# Altium schematic symbol library Temperature Sensor.SchLib: 361 symbols (part 9 of 9)
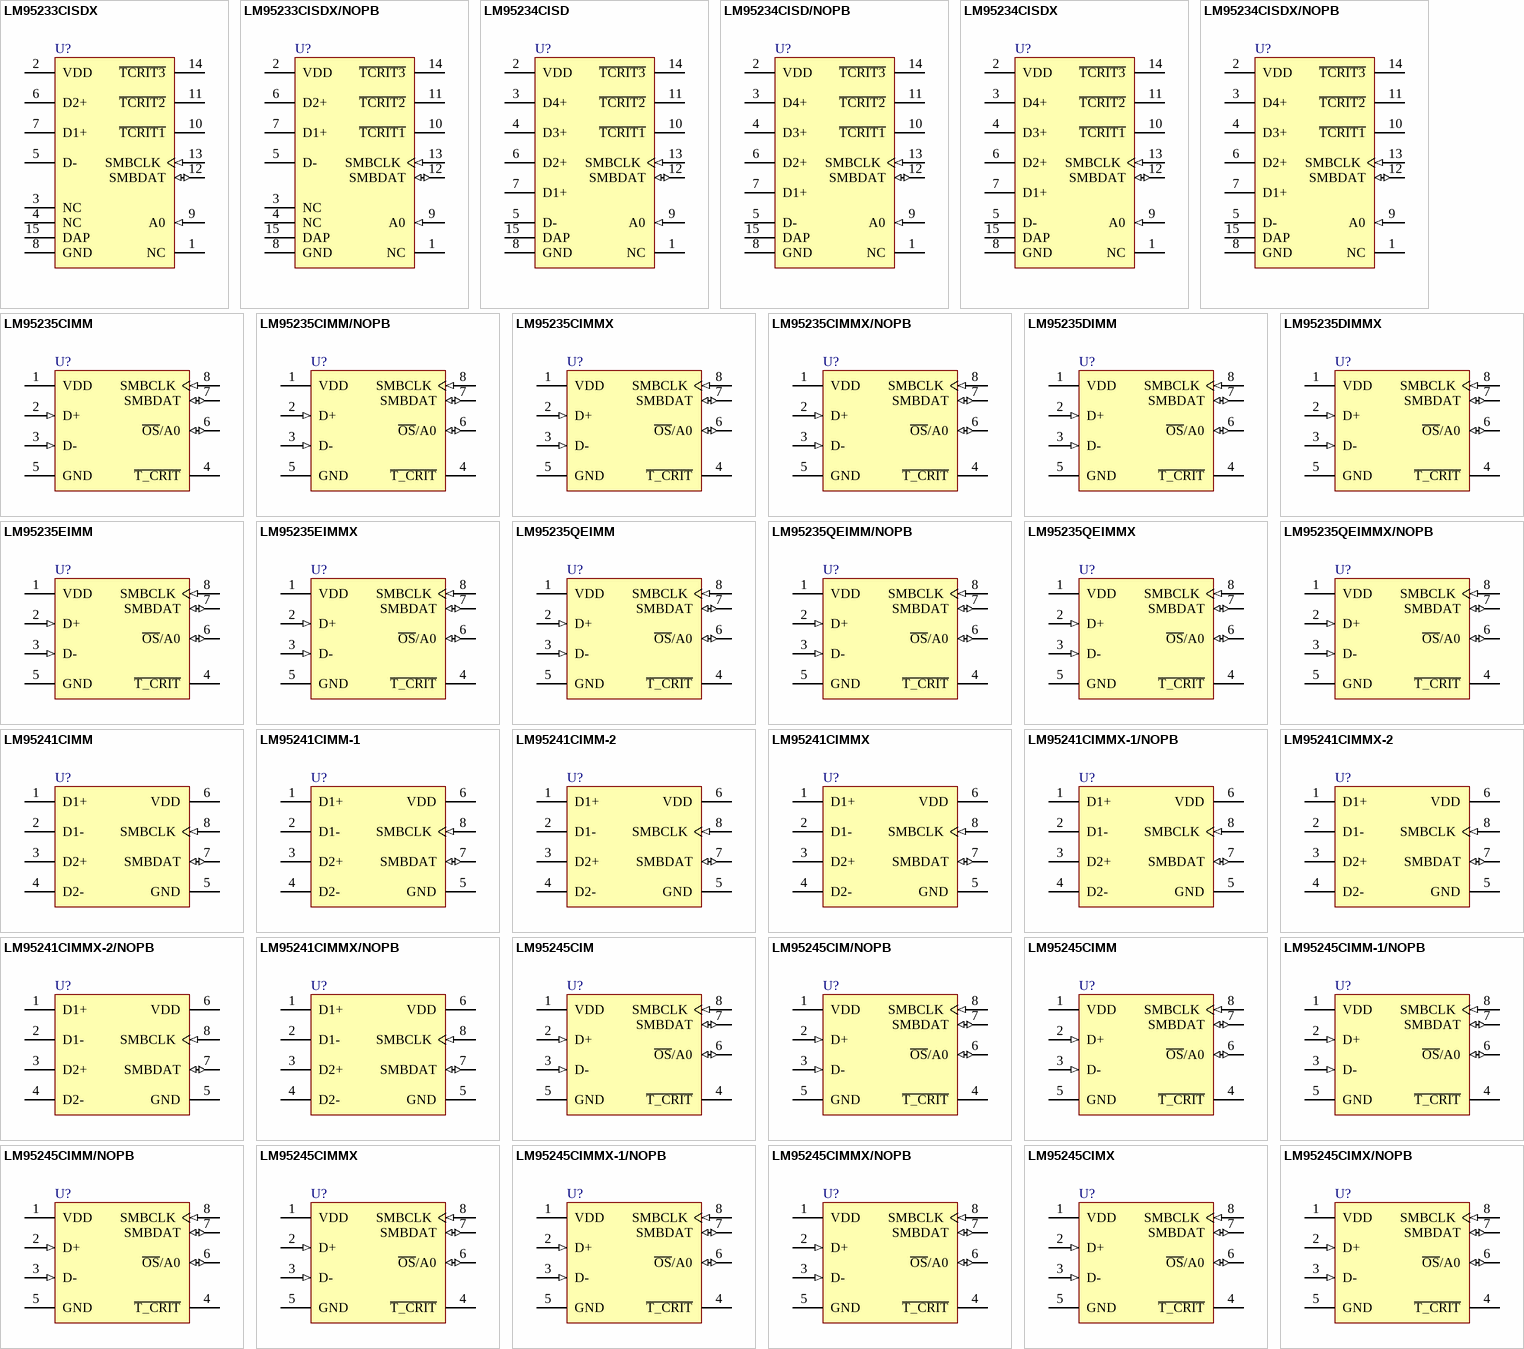
[diagram p17: symbols LM95233CISDX to LM95245CIMX/NOPB]

## LM95241CIMM-1
designator U?
Dual Remote Diode Temperature Sensor with SMBus Interface and TruTherm Technology (65nm/90nm), 8-pin Mini SOIC; PartNumber: LM95241CIMM-1; Manufacturer: National Semiconductor; PackageTopMarking: ZXTT*T29C; PowerWise: Y; CompType: Temp Sensor IC; DatasheetVersion: Sep-2006; PackageVersion: revF, Apr-2008; PackageReference: MUA08A; PackageDescription: MINI SOIC, .118 x .118 x .034in, 8 Lead, .0256in Pitch; RoHS: N; PinCount: 8; High-Reliability: Y; Code_JEDEC: MO-187-AA; ComponentLink1Description: Manufacturer URL; ComponentLink1URL: http://www.national.com/; ComponentLink2Description: LM95241 Datasheet; ComponentLink2URL: http://www.national.com/ds/LM/LM95241.pdf; ComponentLink3Description: LM95241 Web Page; ComponentLink3URL: http://www.national.com/pf/LM/LM95241.html; ComponentLink4Description: MUA08A Package Page; ComponentLink4URL: http://www.national.com/packaging/folders/mua08a.html
footprint MUA08A_N (TSOP, 8-Leads, Body 3x3mm, Pitch 0.65mm, IPC Medium Density)
footprint MUA08A_L (TSOP, 8-Leads, Body 3x3mm, Pitch 0.65mm, IPC High Density)
footprint MUA08A_M (TSOP, 8-Leads, Body 3x3mm, Pitch 0.65mm, IPC Low Density)
pins: 1 D1+, 2 D1-, 3 D2+, 4 D2-, 5 GND (power), 6 VDD (power), 7 SMBDAT (io), 8 SMBCLK (in)

## LM95241CIMM-2
designator U?
Dual Remote Diode Temperature Sensor with SMBus Interface and TruTherm Technology (65nm/90nm), 8-pin Mini SOIC; PartNumber: LM95241CIMM-2; Manufacturer: National Semiconductor; PackageTopMarking: ZXTT*T30C; PowerWise: Y; CompType: Temp Sensor IC; DatasheetVersion: Sep-2006; PackageVersion: revF, Apr-2008; PackageReference: MUA08A; PackageDescription: MINI SOIC, .118 x .118 x .034in, 8 Lead, .0256in Pitch; RoHS: N; PinCount: 8; High-Reliability: Y; Code_JEDEC: MO-187-AA; ComponentLink1Description: Manufacturer URL; ComponentLink1URL: http://www.national.com/; ComponentLink2Description: LM95241 Datasheet; ComponentLink2URL: http://www.national.com/ds/LM/LM95241.pdf; ComponentLink3Description: LM95241 Web Page; ComponentLink3URL: http://www.national.com/pf/LM/LM95241.html; ComponentLink4Description: MUA08A Package Page; ComponentLink4URL: http://www.national.com/packaging/folders/mua08a.html
footprint MUA08A_N (TSOP, 8-Leads, Body 3x3mm, Pitch 0.65mm, IPC Medium Density)
footprint MUA08A_L (TSOP, 8-Leads, Body 3x3mm, Pitch 0.65mm, IPC High Density)
footprint MUA08A_M (TSOP, 8-Leads, Body 3x3mm, Pitch 0.65mm, IPC Low Density)
pins: 1 D1+, 2 D1-, 3 D2+, 4 D2-, 5 GND (power), 6 VDD (power), 7 SMBDAT (io), 8 SMBCLK (in)

## LM95241CIMMX
designator U?
Dual Remote Diode Temperature Sensor with SMBus Interface and TruTherm Technology (65nm/90nm), 8-pin Mini SOIC; PartNumber: LM95241CIMMX; Manufacturer: National Semiconductor; PackageTopMarking: ZXTT*T28C; PowerWise: Y; CompType: Temp Sensor IC; DatasheetVersion: Sep-2006; PackageVersion: revF, Apr-2008; PackageReference: MUA08A; PackageDescription: MINI SOIC, .118 x .118 x .034in, 8 Lead, .0256in Pitch; RoHS: N; PinCount: 8; High-Reliability: Y; Code_JEDEC: MO-187-AA; ComponentLink1Description: Manufacturer URL; ComponentLink1URL: http://www.national.com/; ComponentLink2Description: LM95241 Datasheet; ComponentLink2URL: http://www.national.com/ds/LM/LM95241.pdf; ComponentLink3Description: LM95241 Web Page; ComponentLink3URL: http://www.national.com/pf/LM/LM95241.html; ComponentLink4Description: MUA08A Package Page; ComponentLink4URL: http://www.national.com/packaging/folders/mua08a.html
footprint MUA08A_N (TSOP, 8-Leads, Body 3x3mm, Pitch 0.65mm, IPC Medium Density)
footprint MUA08A_L (TSOP, 8-Leads, Body 3x3mm, Pitch 0.65mm, IPC High Density)
footprint MUA08A_M (TSOP, 8-Leads, Body 3x3mm, Pitch 0.65mm, IPC Low Density)
pins: 1 D1+, 2 D1-, 3 D2+, 4 D2-, 5 GND (power), 6 VDD (power), 7 SMBDAT (io), 8 SMBCLK (in)

## LM95241CIMMX-1/NOPB
designator U?
Dual Remote Diode Temperature Sensor with SMBus Interface and TruTherm Technology (65nm/90nm), 8-pin Mini SOIC, Pb-Free; PartNumber: LM95241CIMMX-1/NOPB; Manufacturer: National Semiconductor; PackageTopMarking: ZXTT*T29C; PowerWise: Y; CompType: Temp Sensor IC; DatasheetVersion: Sep-2006; PackageVersion: revF, Apr-2008; PackageReference: MUA08A; PackageDescription: MINI SOIC, .118 x .118 x .034in, 8 Lead, .0256in Pitch; RoHS: Y; PinCount: 8; High-Reliability: Y; Code_JEDEC: MO-187-AA; ComponentLink1Description: Manufacturer URL; ComponentLink1URL: http://www.national.com/; ComponentLink2Description: LM95241 Datasheet; ComponentLink2URL: http://www.national.com/ds/LM/LM95241.pdf; ComponentLink3Description: LM95241 Web Page; ComponentLink3URL: http://www.national.com/pf/LM/LM95241.html; ComponentLink4Description: MUA08A Package Page; ComponentLink4URL: http://www.national.com/packaging/folders/mua08a.html
footprint MUA08A_N (TSOP, 8-Leads, Body 3x3mm, Pitch 0.65mm, IPC Medium Density)
footprint MUA08A_L (TSOP, 8-Leads, Body 3x3mm, Pitch 0.65mm, IPC High Density)
footprint MUA08A_M (TSOP, 8-Leads, Body 3x3mm, Pitch 0.65mm, IPC Low Density)
pins: 1 D1+, 2 D1-, 3 D2+, 4 D2-, 5 GND (power), 6 VDD (power), 7 SMBDAT (io), 8 SMBCLK (in)

## LM95241CIMMX-2
designator U?
Dual Remote Diode Temperature Sensor with SMBus Interface and TruTherm Technology (65nm/90nm), 8-pin Mini SOIC; PartNumber: LM95241CIMMX-2; Manufacturer: National Semiconductor; PackageTopMarking: ZXTT*T30C; PowerWise: Y; CompType: Temp Sensor IC; DatasheetVersion: Sep-2006; PackageVersion: revF, Apr-2008; PackageReference: MUA08A; PackageDescription: MINI SOIC, .118 x .118 x .034in, 8 Lead, .0256in Pitch; RoHS: N; PinCount: 8; High-Reliability: Y; Code_JEDEC: MO-187-AA; ComponentLink1Description: Manufacturer URL; ComponentLink1URL: http://www.national.com/; ComponentLink2Description: LM95241 Datasheet; ComponentLink2URL: http://www.national.com/ds/LM/LM95241.pdf; ComponentLink3Description: LM95241 Web Page; ComponentLink3URL: http://www.national.com/pf/LM/LM95241.html; ComponentLink4Description: MUA08A Package Page; ComponentLink4URL: http://www.national.com/packaging/folders/mua08a.html
footprint MUA08A_N (TSOP, 8-Leads, Body 3x3mm, Pitch 0.65mm, IPC Medium Density)
footprint MUA08A_L (TSOP, 8-Leads, Body 3x3mm, Pitch 0.65mm, IPC High Density)
footprint MUA08A_M (TSOP, 8-Leads, Body 3x3mm, Pitch 0.65mm, IPC Low Density)
pins: 1 D1+, 2 D1-, 3 D2+, 4 D2-, 5 GND (power), 6 VDD (power), 7 SMBDAT (io), 8 SMBCLK (in)

## LM95241CIMMX-2/NOPB
designator U?
Dual Remote Diode Temperature Sensor with SMBus Interface and TruTherm Technology (65nm/90nm), 8-pin Mini SOIC, Pb-Free; PartNumber: LM95241CIMMX-2/NOPB; Manufacturer: National Semiconductor; PackageTopMarking: ZXTT*T30C; PowerWise: Y; CompType: Temp Sensor IC; DatasheetVersion: Sep-2006; PackageVersion: revF, Apr-2008; PackageReference: MUA08A; PackageDescription: MINI SOIC, .118 x .118 x .034in, 8 Lead, .0256in Pitch; RoHS: Y; PinCount: 8; High-Reliability: Y; Code_JEDEC: MO-187-AA; ComponentLink1Description: Manufacturer URL; ComponentLink1URL: http://www.national.com/; ComponentLink2Description: LM95241 Datasheet; ComponentLink2URL: http://www.national.com/ds/LM/LM95241.pdf; ComponentLink3Description: LM95241 Web Page; ComponentLink3URL: http://www.national.com/pf/LM/LM95241.html; ComponentLink4Description: MUA08A Package Page; ComponentLink4URL: http://www.national.com/packaging/folders/mua08a.html
footprint MUA08A_N (TSOP, 8-Leads, Body 3x3mm, Pitch 0.65mm, IPC Medium Density)
footprint MUA08A_L (TSOP, 8-Leads, Body 3x3mm, Pitch 0.65mm, IPC High Density)
footprint MUA08A_M (TSOP, 8-Leads, Body 3x3mm, Pitch 0.65mm, IPC Low Density)
pins: 1 D1+, 2 D1-, 3 D2+, 4 D2-, 5 GND (power), 6 VDD (power), 7 SMBDAT (io), 8 SMBCLK (in)

## LM95241CIMMX/NOPB
designator U?
Dual Remote Diode Temperature Sensor with SMBus Interface and TruTherm Technology (65nm/90nm), 8-pin Mini SOIC, Pb-Free; PartNumber: LM95241CIMMX/NOPB; Manufacturer: National Semiconductor; PackageTopMarking: ZXTT*T28C; PowerWise: Y; CompType: Temp Sensor IC; DatasheetVersion: Sep-2006; PackageVersion: revF, Apr-2008; PackageReference: MUA08A; PackageDescription: MINI SOIC, .118 x .118 x .034in, 8 Lead, .0256in Pitch; RoHS: Y; PinCount: 8; High-Reliability: Y; Code_JEDEC: MO-187-AA; ComponentLink1Description: Manufacturer URL; ComponentLink1URL: http://www.national.com/; ComponentLink2Description: LM95241 Datasheet; ComponentLink2URL: http://www.national.com/ds/LM/LM95241.pdf; ComponentLink3Description: LM95241 Web Page; ComponentLink3URL: http://www.national.com/pf/LM/LM95241.html; ComponentLink4Description: MUA08A Package Page; ComponentLink4URL: http://www.national.com/packaging/folders/mua08a.html
footprint MUA08A_N (TSOP, 8-Leads, Body 3x3mm, Pitch 0.65mm, IPC Medium Density)
footprint MUA08A_L (TSOP, 8-Leads, Body 3x3mm, Pitch 0.65mm, IPC High Density)
footprint MUA08A_M (TSOP, 8-Leads, Body 3x3mm, Pitch 0.65mm, IPC Low Density)
pins: 1 D1+, 2 D1-, 3 D2+, 4 D2-, 5 GND (power), 6 VDD (power), 7 SMBDAT (io), 8 SMBCLK (in)

## LM95245CIM
designator U?
Precision Remote Diode Digital Temperature Sensor with TruTherm BJT Beta Compensation Technology for 45nm Process, 8-pin Narrow SOIC; PartNumber: LM95245CIM; Manufacturer: National Semiconductor; PackageTopMarking: NSZXTT*95245*CIM; PowerWise: N; CompType: Temp Sensor IC; High-Reliability: Y; DatasheetVersion: Mar-2008; PackageVersion: revM, May-2009; PackageReference: M08A; PackageDescription: SOIC Narrow, 4.9 x 3.9 x 1.45mm, 8 Lead, 1.27mm Pitch; RoHS: N; PinCount: 8; Code_JEDEC: MS-012-AA; Code_IPC: SOIC127P600-8; ComponentLink1Description: Manufacturer URL; ComponentLink1URL: http://www.national.com/; ComponentLink2Description: LM95245 Datasheet; ComponentLink2URL: http://www.national.com/ds/LM/LM95245.pdf; ComponentLink3Description: LM95245 Web Page; ComponentLink3URL: http://www.national.com/pf/LM/LM95245.html; ComponentLink4Description: M08A Package Page; ComponentLink4URL: http://www.national.com/packaging/folders/m08a.html
footprint M08A_N (SOIC, 8-Leads, Body 4.9x3.9mm, Pitch 1.27mm, IPC Medium Density)
footprint M08A_L (SOIC, 8-Leads, Body 4.9x3.9mm, Pitch 1.27mm, IPC High Density)
footprint M08A_M (SOIC, 8-Leads, Body 4.9x3.9mm, Pitch 1.27mm, IPC Low Density)
pins: 1 VDD (power), 2 D+ (in), 3 D- (in), 4 ~{T_CRIT} (oc), 5 GND (power), 6 ~{OS}/A0 (io), 7 SMBDAT (io), 8 SMBCLK (in)

## LM95245CIM/NOPB
designator U?
Precision Remote Diode Digital Temperature Sensor with TruTherm BJT Beta Compensation Technology for 45nm Process, 8-pin Narrow SOIC, Pb-Free; PartNumber: LM95245CIM/NOPB; Manufacturer: National Semiconductor; PackageTopMarking: NSZXTT*95245*CIM; PowerWise: N; CompType: Temp Sensor IC; High-Reliability: Y; DatasheetVersion: Mar-2008; PackageVersion: revM, May-2009; PackageReference: M08A; PackageDescription: SOIC Narrow, 4.9 x 3.9 x 1.45mm, 8 Lead, 1.27mm Pitch; RoHS: Y; PinCount: 8; Code_JEDEC: MS-012-AA; Code_IPC: SOIC127P600-8; ComponentLink1Description: Manufacturer URL; ComponentLink1URL: http://www.national.com/; ComponentLink2Description: LM95245 Datasheet; ComponentLink2URL: http://www.national.com/ds/LM/LM95245.pdf; ComponentLink3Description: LM95245 Web Page; ComponentLink3URL: http://www.national.com/pf/LM/LM95245.html; ComponentLink4Description: M08A Package Page; ComponentLink4URL: http://www.national.com/packaging/folders/m08a.html
footprint M08A_N (SOIC, 8-Leads, Body 4.9x3.9mm, Pitch 1.27mm, IPC Medium Density)
footprint M08A_L (SOIC, 8-Leads, Body 4.9x3.9mm, Pitch 1.27mm, IPC High Density)
footprint M08A_M (SOIC, 8-Leads, Body 4.9x3.9mm, Pitch 1.27mm, IPC Low Density)
pins: 1 VDD (power), 2 D+ (in), 3 D- (in), 4 ~{T_CRIT} (oc), 5 GND (power), 6 ~{OS}/A0 (io), 7 SMBDAT (io), 8 SMBCLK (in)

## LM95245CIMM
designator U?
Precision Remote Diode Digital Temperature Sensor with TruTherm BJT Beta Compensation Technology for 45nm Process, 8-pin Mini SOIC; PartNumber: LM95245CIMM; Manufacturer: National Semiconductor; PackageTopMarking: ZXTT*T45C; PowerWise: Y; CompType: Temp Sensor IC; DatasheetVersion: Mar-2008; PackageVersion: revF, Apr-2008; PackageReference: MUA08A; PackageDescription: MINI SOIC, .118 x .118 x .034in, 8 Lead, .0256in Pitch; RoHS: N; PinCount: 8; High-Reliability: Y; Code_JEDEC: MO-187-AA; ComponentLink1Description: Manufacturer URL; ComponentLink1URL: http://www.national.com/; ComponentLink2Description: LM95245 Datasheet; ComponentLink2URL: http://www.national.com/ds/LM/LM95245.pdf; ComponentLink3Description: LM95245 Web Page; ComponentLink3URL: http://www.national.com/pf/LM/LM95245.html; ComponentLink4Description: MUA08A Package Page; ComponentLink4URL: http://www.national.com/packaging/folders/mua08a.html
footprint MUA08A_N (TSOP, 8-Leads, Body 3x3mm, Pitch 0.65mm, IPC Medium Density)
footprint MUA08A_L (TSOP, 8-Leads, Body 3x3mm, Pitch 0.65mm, IPC High Density)
footprint MUA08A_M (TSOP, 8-Leads, Body 3x3mm, Pitch 0.65mm, IPC Low Density)
pins: 1 VDD (power), 2 D+ (in), 3 D- (in), 4 ~{T_CRIT} (oc), 5 GND (power), 6 ~{OS}/A0 (io), 7 SMBDAT (io), 8 SMBCLK (in)

## LM95245CIMM-1/NOPB
designator U?
Precision Remote Diode Digital Temperature Sensor with TruTherm BJT Beta Compensation Technology for 45nm Process, 8 pin MINI SOIC; PartNumber: LM95245CIMM-1/NOPB; Manufacturer: National Semiconductor; PackageTopMarking: ZXTT*T46C; PowerWise: Y; CompType: Temp Sensor IC; DatasheetVersion: Mar-2008; PackageVersion: revF, Apr-2008; PackageReference: MUA08A; PackageDescription: MINI SOIC, .118 x .118 x .034in, 8 Lead, .0256in Pitch; RoHS: Y; PinCount: 8; High-Reliability: Y; Code_JEDEC: MO-187-AA; ComponentLink1Description: Manufacturer URL; ComponentLink1URL: http://www.national.com/; ComponentLink2Description: LM95245 Datasheet; ComponentLink2URL: http://www.national.com/ds/LM/LM95245.pdf; ComponentLink3Description: LM95245 Web Page; ComponentLink3URL: http://www.national.com/pf/LM/LM95245.html; ComponentLink4Description: MUA08A Package Page; ComponentLink4URL: http://www.national.com/packaging/folders/mua08a.html
footprint MUA08A_N (TSOP, 8-Leads, Body 3x3mm, Pitch 0.65mm, IPC Medium Density)
footprint MUA08A_L (TSOP, 8-Leads, Body 3x3mm, Pitch 0.65mm, IPC High Density)
footprint MUA08A_M (TSOP, 8-Leads, Body 3x3mm, Pitch 0.65mm, IPC Low Density)
pins: 1 VDD (power), 2 D+ (in), 3 D- (in), 4 ~{T_CRIT} (oc), 5 GND (power), 6 ~{OS}/A0 (io), 7 SMBDAT (io), 8 SMBCLK (in)

## LM95245CIMM/NOPB
designator U?
Precision Remote Diode Digital Temperature Sensor with TruTherm BJT Beta Compensation Technology for 45nm Process, 8-pin Mini SOIC, Pb-Free; PartNumber: LM95245CIMM/NOPB; Manufacturer: National Semiconductor; PackageTopMarking: ZXTT*T45C; PowerWise: Y; CompType: Temp Sensor IC; DatasheetVersion: Mar-2008; PackageVersion: revF, Apr-2008; PackageReference: MUA08A; PackageDescription: MINI SOIC, .118 x .118 x .034in, 8 Lead, .0256in Pitch; RoHS: Y; PinCount: 8; High-Reliability: Y; Code_JEDEC: MO-187-AA; ComponentLink1Description: Manufacturer URL; ComponentLink1URL: http://www.national.com/; ComponentLink2Description: LM95245 Datasheet; ComponentLink2URL: http://www.national.com/ds/LM/LM95245.pdf; ComponentLink3Description: LM95245 Web Page; ComponentLink3URL: http://www.national.com/pf/LM/LM95245.html; ComponentLink4Description: MUA08A Package Page; ComponentLink4URL: http://www.national.com/packaging/folders/mua08a.html
footprint MUA08A_N (TSOP, 8-Leads, Body 3x3mm, Pitch 0.65mm, IPC Medium Density)
footprint MUA08A_L (TSOP, 8-Leads, Body 3x3mm, Pitch 0.65mm, IPC High Density)
footprint MUA08A_M (TSOP, 8-Leads, Body 3x3mm, Pitch 0.65mm, IPC Low Density)
pins: 1 VDD (power), 2 D+ (in), 3 D- (in), 4 ~{T_CRIT} (oc), 5 GND (power), 6 ~{OS}/A0 (io), 7 SMBDAT (io), 8 SMBCLK (in)

## LM95245CIMMX
designator U?
Precision Remote Diode Digital Temperature Sensor with TruTherm BJT Beta Compensation Technology for 45nm Process, 8-pin Mini SOIC; PartNumber: LM95245CIMMX; Manufacturer: National Semiconductor; PackageTopMarking: ZXTT*T45C; PowerWise: Y; CompType: Temp Sensor IC; DatasheetVersion: Mar-2008; PackageVersion: revF, Apr-2008; PackageReference: MUA08A; PackageDescription: MINI SOIC, .118 x .118 x .034in, 8 Lead, .0256in Pitch; RoHS: N; PinCount: 8; High-Reliability: Y; Code_JEDEC: MO-187-AA; ComponentLink1Description: Manufacturer URL; ComponentLink1URL: http://www.national.com/; ComponentLink2Description: LM95245 Datasheet; ComponentLink2URL: http://www.national.com/ds/LM/LM95245.pdf; ComponentLink3Description: LM95245 Web Page; ComponentLink3URL: http://www.national.com/pf/LM/LM95245.html; ComponentLink4Description: MUA08A Package Page; ComponentLink4URL: http://www.national.com/packaging/folders/mua08a.html
footprint MUA08A_N (TSOP, 8-Leads, Body 3x3mm, Pitch 0.65mm, IPC Medium Density)
footprint MUA08A_L (TSOP, 8-Leads, Body 3x3mm, Pitch 0.65mm, IPC High Density)
footprint MUA08A_M (TSOP, 8-Leads, Body 3x3mm, Pitch 0.65mm, IPC Low Density)
pins: 1 VDD (power), 2 D+ (in), 3 D- (in), 4 ~{T_CRIT} (oc), 5 GND (power), 6 ~{OS}/A0 (io), 7 SMBDAT (io), 8 SMBCLK (in)

## LM95245CIMMX-1/NOPB
designator U?
Precision Remote Diode Digital Temperature Sensor with TruTherm BJT Beta Compensation Technology for 45nm Process, 8 pin MINI SOIC; PartNumber: LM95245CIMMX-1/NOPB; Manufacturer: National Semiconductor; PackageTopMarking: ZXTT*T46C; PowerWise: Y; CompType: Temp Sensor IC; DatasheetVersion: Mar-2008; PackageVersion: revF, Apr-2008; PackageReference: MUA08A; PackageDescription: MINI SOIC, .118 x .118 x .034in, 8 Lead, .0256in Pitch; RoHS: Y; PinCount: 8; High-Reliability: Y; Code_JEDEC: MO-187-AA; ComponentLink1Description: Manufacturer URL; ComponentLink1URL: http://www.national.com/; ComponentLink2Description: LM95245 Datasheet; ComponentLink2URL: http://www.national.com/ds/LM/LM95245.pdf; ComponentLink3Description: LM95245 Web Page; ComponentLink3URL: http://www.national.com/pf/LM/LM95245.html; ComponentLink4Description: MUA08A Package Page; ComponentLink4URL: http://www.national.com/packaging/folders/mua08a.html
footprint MUA08A_N (TSOP, 8-Leads, Body 3x3mm, Pitch 0.65mm, IPC Medium Density)
footprint MUA08A_L (TSOP, 8-Leads, Body 3x3mm, Pitch 0.65mm, IPC High Density)
footprint MUA08A_M (TSOP, 8-Leads, Body 3x3mm, Pitch 0.65mm, IPC Low Density)
pins: 1 VDD (power), 2 D+ (in), 3 D- (in), 4 ~{T_CRIT} (oc), 5 GND (power), 6 ~{OS}/A0 (io), 7 SMBDAT (io), 8 SMBCLK (in)

## LM95245CIMMX/NOPB
designator U?
Precision Remote Diode Digital Temperature Sensor with TruTherm BJT Beta Compensation Technology for 45nm Process, 8-pin Mini SOIC, Pb-Free; PartNumber: LM95245CIMMX/NOPB; Manufacturer: National Semiconductor; PackageTopMarking: ZXTT*T45C; PowerWise: Y; CompType: Temp Sensor IC; DatasheetVersion: Mar-2008; PackageVersion: revF, Apr-2008; PackageReference: MUA08A; PackageDescription: MINI SOIC, .118 x .118 x .034in, 8 Lead, .0256in Pitch; RoHS: Y; PinCount: 8; High-Reliability: Y; Code_JEDEC: MO-187-AA; ComponentLink1Description: Manufacturer URL; ComponentLink1URL: http://www.national.com/; ComponentLink2Description: LM95245 Datasheet; ComponentLink2URL: http://www.national.com/ds/LM/LM95245.pdf; ComponentLink3Description: LM95245 Web Page; ComponentLink3URL: http://www.national.com/pf/LM/LM95245.html; ComponentLink4Description: MUA08A Package Page; ComponentLink4URL: http://www.national.com/packaging/folders/mua08a.html
footprint MUA08A_N (TSOP, 8-Leads, Body 3x3mm, Pitch 0.65mm, IPC Medium Density)
footprint MUA08A_L (TSOP, 8-Leads, Body 3x3mm, Pitch 0.65mm, IPC High Density)
footprint MUA08A_M (TSOP, 8-Leads, Body 3x3mm, Pitch 0.65mm, IPC Low Density)
pins: 1 VDD (power), 2 D+ (in), 3 D- (in), 4 ~{T_CRIT} (oc), 5 GND (power), 6 ~{OS}/A0 (io), 7 SMBDAT (io), 8 SMBCLK (in)

## LM95245CIMX
designator U?
Precision Remote Diode Digital Temperature Sensor with TruTherm BJT Beta Compensation Technology for 45nm Process, 8-pin Narrow SOIC; PartNumber: LM95245CIMX; Manufacturer: National Semiconductor; PackageTopMarking: NSZXTT*95245*CIM; PowerWise: N; CompType: Temp Sensor IC; High-Reliability: Y; DatasheetVersion: Mar-2008; PackageVersion: revM, May-2009; PackageReference: M08A; PackageDescription: SOIC Narrow, 4.9 x 3.9 x 1.45mm, 8 Lead, 1.27mm Pitch; RoHS: N; PinCount: 8; Code_JEDEC: MS-012-AA; Code_IPC: SOIC127P600-8; ComponentLink1Description: Manufacturer URL; ComponentLink1URL: http://www.national.com/; ComponentLink2Description: LM95245 Datasheet; ComponentLink2URL: http://www.national.com/ds/LM/LM95245.pdf; ComponentLink3Description: LM95245 Web Page; ComponentLink3URL: http://www.national.com/pf/LM/LM95245.html; ComponentLink4Description: M08A Package Page; ComponentLink4URL: http://www.national.com/packaging/folders/m08a.html
footprint M08A_N (SOIC, 8-Leads, Body 4.9x3.9mm, Pitch 1.27mm, IPC Medium Density)
footprint M08A_L (SOIC, 8-Leads, Body 4.9x3.9mm, Pitch 1.27mm, IPC High Density)
footprint M08A_M (SOIC, 8-Leads, Body 4.9x3.9mm, Pitch 1.27mm, IPC Low Density)
pins: 1 VDD (power), 2 D+ (in), 3 D- (in), 4 ~{T_CRIT} (oc), 5 GND (power), 6 ~{OS}/A0 (io), 7 SMBDAT (io), 8 SMBCLK (in)

## LM95245CIMX/NOPB
designator U?
Precision Remote Diode Digital Temperature Sensor with TruTherm BJT Beta Compensation Technology for 45nm Process, 8-pin Narrow SOIC, Pb-Free; PartNumber: LM95245CIMX/NOPB; Manufacturer: National Semiconductor; PackageTopMarking: NSZXTT*95245*CIM; PowerWise: N; CompType: Temp Sensor IC; High-Reliability: Y; DatasheetVersion: Mar-2008; PackageVersion: revM, May-2009; PackageReference: M08A; PackageDescription: SOIC Narrow, 4.9 x 3.9 x 1.45mm, 8 Lead, 1.27mm Pitch; RoHS: Y; PinCount: 8; Code_JEDEC: MS-012-AA; Code_IPC: SOIC127P600-8; ComponentLink1Description: Manufacturer URL; ComponentLink1URL: http://www.national.com/; ComponentLink2Description: LM95245 Datasheet; ComponentLink2URL: http://www.national.com/ds/LM/LM95245.pdf; ComponentLink3Description: LM95245 Web Page; ComponentLink3URL: http://www.national.com/pf/LM/LM95245.html; ComponentLink4Description: M08A Package Page; ComponentLink4URL: http://www.national.com/packaging/folders/m08a.html
footprint M08A_N (SOIC, 8-Leads, Body 4.9x3.9mm, Pitch 1.27mm, IPC Medium Density)
footprint M08A_L (SOIC, 8-Leads, Body 4.9x3.9mm, Pitch 1.27mm, IPC High Density)
footprint M08A_M (SOIC, 8-Leads, Body 4.9x3.9mm, Pitch 1.27mm, IPC Low Density)
pins: 1 VDD (power), 2 D+ (in), 3 D- (in), 4 ~{T_CRIT} (oc), 5 GND (power), 6 ~{OS}/A0 (io), 7 SMBDAT (io), 8 SMBCLK (in)

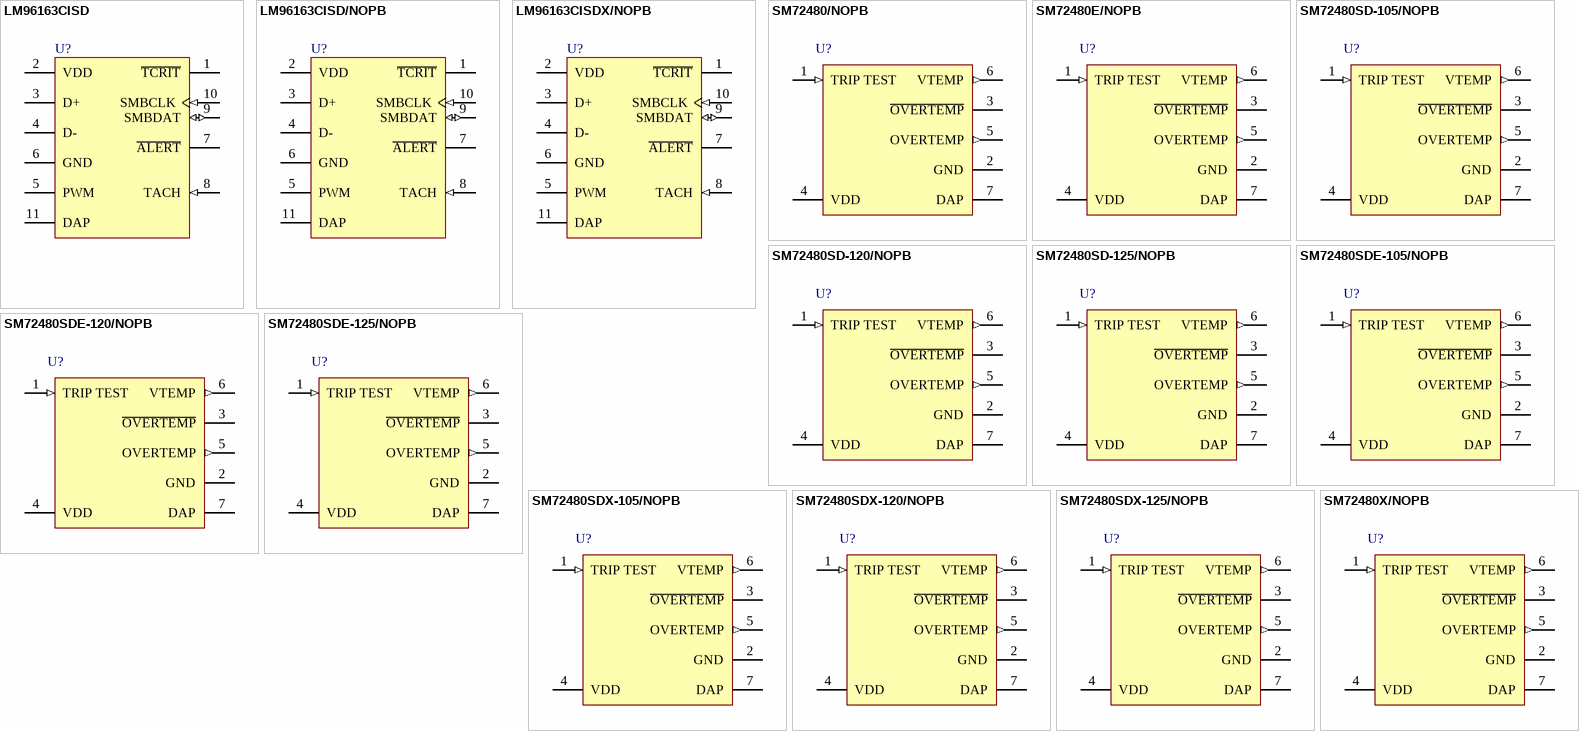
[diagram p9: symbols LM96163CISD to SM72480X/NOPB]

## LM96163CISD
designator U?
Remote Diode Digital Temperature Sensor with Integrated Fan Control and TruTherm BJT Transistor Beta Compensation Technology, 11-pin LLP; PartNumber: LM96163CISD; Manufacturer: National Semiconductor; PackageTopMarking: ZXYTT*T63C; PowerWise: Y; CompType: Temp Sensor IC; DatasheetVersion: Jun-2008; PackageVersion: revA, Oct-2003; PackageReference: SDA10A; PackageDescription: LLP, Plastic, Dual, 3 x 3 x 0.8mm Body, 10 Lead, 0.5mm Pitch, No Pullback; RoHS: Y; PinCount: 10; High-Reliability: Y; ComponentLink1Description: Manufacturer URL; ComponentLink1URL: http://www.national.com/; ComponentLink2Description: LM96163 Datasheet; ComponentLink2URL: http://www.national.com/ds/LM/LM96163.pdf; ComponentLink3Description: LM96163 Web Page; ComponentLink3URL: http://www.national.com/pf/LM/LM96163.html; ComponentLink4Description: SDA10A Package Page; ComponentLink4URL: http://www.national.com/packaging/folders/sda10a.html
footprint SDA10A (SON, 10-Leads, Body 3x3 mm, Pitch 0.5mm, NSC Recommended)
pins: 1 ~{TCRIT} (oc), 2 VDD (power), 3 D+, 4 D-, 5 PWM (oc), 6 GND (power), 7 ~{ALERT} (oc), 8 TACH (in), 9 SMBDAT (io), 10 SMBCLK (in), 11 DAP (power)

## LM96163CISD/NOPB
designator U?
Remote Diode Digital Temperature Sensor with Integrated Fan Control and TruTherm BJT Transistor Beta Compensation Technology, 10-pin LLP, Pb-Free; PartNumber: LM96163CISD/NOPB; Manufacturer: National Semiconductor; PackageTopMarking: ZXYTT*T63C; PowerWise: Y; CompType: Temp Sensor IC; DatasheetVersion: Jun-2008; PackageVersion: revA, Oct-2003; PackageReference: SDA10A; PackageDescription: LLP, Plastic, Dual, 3 x 3 x 0.8mm Body, 10 Lead, 0.5mm Pitch, No Pullback; RoHS: Y; PinCount: 10; High-Reliability: Y; ComponentLink1Description: Manufacturer URL; ComponentLink1URL: http://www.national.com/; ComponentLink2Description: LM96163 Datasheet; ComponentLink2URL: http://www.national.com/ds/LM/LM96163.pdf; ComponentLink3Description: LM96163 Web Page; ComponentLink3URL: http://www.national.com/pf/LM/LM96163.html; ComponentLink4Description: SDA10A Package Page; ComponentLink4URL: http://www.national.com/packaging/folders/sda10a.html
footprint SDA10A (SON, 10-Leads, Body 3x3 mm, Pitch 0.5mm, NSC Recommended)
pins: 1 ~{TCRIT} (oc), 2 VDD (power), 3 D+, 4 D-, 5 PWM (oc), 6 GND (power), 7 ~{ALERT} (oc), 8 TACH (in), 9 SMBDAT (io), 10 SMBCLK (in), 11 DAP (power)

## LM96163CISDX/NOPB
designator U?
Remote Diode Digital Temperature Sensor with Integrated Fan Control and TruTherm BJT Transistor Beta Compensation Technology, 10-pin LLP, Pb-Free; PartNumber: LM96163CISDX/NOPB; Manufacturer: National Semiconductor; PackageTopMarking: ZXYTT*T63C; PowerWise: Y; CompType: Temp Sensor IC; DatasheetVersion: Jun-2008; PackageVersion: revA, Oct-2003; PackageReference: SDA10A; PackageDescription: LLP, Plastic, Dual, 3 x 3 x 0.8mm Body, 10 Lead, 0.5mm Pitch, No Pullback; RoHS: Y; PinCount: 10; High-Reliability: Y; ComponentLink1Description: Manufacturer URL; ComponentLink1URL: http://www.national.com/; ComponentLink2Description: LM96163 Datasheet; ComponentLink2URL: http://www.national.com/ds/LM/LM96163.pdf; ComponentLink3Description: LM96163 Web Page; ComponentLink3URL: http://www.national.com/pf/LM/LM96163.html; ComponentLink4Description: SDA10A Package Page; ComponentLink4URL: http://www.national.com/packaging/folders/sda10a.html
footprint SDA10A (SON, 10-Leads, Body 3x3 mm, Pitch 0.5mm, NSC Recommended)
pins: 1 ~{TCRIT} (oc), 2 VDD (power), 3 D+, 4 D-, 5 PWM (oc), 6 GND (power), 7 ~{ALERT} (oc), 8 TACH (in), 9 SMBDAT (io), 10 SMBCLK (in), 11 DAP (power)

## SM72480/NOPB
designator U?
SolarMagic 1.6V Factory Preset Temperature Switch and Temperature Sensor, 6-pin LLP, 1000 Reel; PartNumber: SM72480/NOPB; Manufacturer: National Semiconductor; PackageTopMarking: XTT*S80; PowerWise: N; CompType: Temp Sensor IC; High-Reliability: Y; DatasheetVersion: May-2011; PackageVersion: revA, Nov-2003; PackageReference: SDB06A; PackageDescription: LLP, Plastic, Dual, 2.2 x 2.5 x 0.8mm Body, 6 Lead, 0.65mm Pitch, No Pullback; RoHS: Y; PinCount: 6; ComponentLink1Description: Manufacturer URL; ComponentLink1URL: http://www.national.com/; ComponentLink2Description: SM72480 Datasheet; ComponentLink2URL: http://www.national.com/ds/SM/SM72480.pdf; ComponentLink3Description: SM72480 Web Page; ComponentLink3URL: http://www.national.com/pf/SM/SM72480.html; ComponentLink4Description: SDB06A Package Page; ComponentLink4URL: http://www.national.com/packaging/folders/sdb06a.html
footprint SDB06A (SON, 6-Leads, Body 2.2x2.5mm, Pitch 0.65mm, NSC Recommended (SC-70 Land))
pins: 1 TRIP TEST (in), 2 GND (power), 3 ~{OVERTEMP} (oc), 4 VDD (power), 5 OVERTEMP (out), 6 VTEMP (out), 7 DAP (power)

## SM72480E/NOPB
designator U?
SolarMagic 1.6V Factory Preset Temperature Switch and Temperature Sensor, 6-pin LLP, 250 Reel; PartNumber: SM72480E/NOPB; Manufacturer: National Semiconductor; PackageTopMarking: XTT*S80; PowerWise: N; CompType: Temp Sensor IC; High-Reliability: Y; DatasheetVersion: May-2011; PackageVersion: revA, Nov-2003; PackageReference: SDB06A; PackageDescription: LLP, Plastic, Dual, 2.2 x 2.5 x 0.8mm Body, 6 Lead, 0.65mm Pitch, No Pullback; RoHS: Y; PinCount: 6; ComponentLink1Description: Manufacturer URL; ComponentLink1URL: http://www.national.com/; ComponentLink2Description: SM72480 Datasheet; ComponentLink2URL: http://www.national.com/ds/SM/SM72480.pdf; ComponentLink3Description: SM72480 Web Page; ComponentLink3URL: http://www.national.com/pf/SM/SM72480.html; ComponentLink4Description: SDB06A Package Page; ComponentLink4URL: http://www.national.com/packaging/folders/sdb06a.html
footprint SDB06A (SON, 6-Leads, Body 2.2x2.5mm, Pitch 0.65mm, NSC Recommended (SC-70 Land))
pins: 1 TRIP TEST (in), 2 GND (power), 3 ~{OVERTEMP} (oc), 4 VDD (power), 5 OVERTEMP (out), 6 VTEMP (out), 7 DAP (power)

## SM72480SD-105/NOPB
designator U?
SolarMagic 1.6V Factory Preset Temperature Switch and Temperature Sensor, 6-pin LLP; PartNumber: SM72480SD-105/NOPB; Manufacturer: National Semiconductor; PackageTopMarking: XTT*701; PowerWise: N; CompType: Temp Sensor IC; High-Reliability: Y; DatasheetVersion: May-2011; PackageVersion: revA, Nov-2003; PackageReference: SDB06A; PackageDescription: LLP, Plastic, Dual, 2.2 x 2.5 x 0.8mm Body, 6 Lead, 0.65mm Pitch, No Pullback; RoHS: Y; PinCount: 6; ComponentLink1Description: Manufacturer URL; ComponentLink1URL: http://www.national.com/; ComponentLink2Description: SM72480 Datasheet; ComponentLink2URL: http://www.national.com/ds/SM/SM72480.pdf; ComponentLink3Description: SM72480 Web Page; ComponentLink3URL: http://www.national.com/pf/SM/SM72480.html; ComponentLink4Description: SDB06A Package Page; ComponentLink4URL: http://www.national.com/packaging/folders/sdb06a.html
footprint SDB06A (SON, 6-Leads, Body 2.2x2.5mm, Pitch 0.65mm, NSC Recommended (SC-70 Land))
pins: 1 TRIP TEST (in), 2 GND (power), 3 ~{OVERTEMP} (oc), 4 VDD (power), 5 OVERTEMP (out), 6 VTEMP (out), 7 DAP (power)

## SM72480SD-120/NOPB
designator U?
SolarMagic 1.6V Factory Preset Temperature Switch and Temperature Sensor, 6-pin LLP, 1000 Reel; PartNumber: SM72480SD-120/NOPB; Manufacturer: National Semiconductor; PackageTopMarking: XTT*S80; PowerWise: N; CompType: Temp Sensor IC; High-Reliability: Y; DatasheetVersion: May-2011; PackageVersion: revA, Nov-2003; PackageReference: SDB06A; PackageDescription: LLP, Plastic, Dual, 2.2 x 2.5 x 0.8mm Body, 6 Lead, 0.65mm Pitch, No Pullback; RoHS: Y; PinCount: 6; ComponentLink1Description: Manufacturer URL; ComponentLink1URL: http://www.national.com/; ComponentLink2Description: SM72480 Datasheet; ComponentLink2URL: http://www.national.com/ds/SM/SM72480.pdf; ComponentLink3Description: SM72480 Web Page; ComponentLink3URL: http://www.national.com/pf/SM/SM72480.html; ComponentLink4Description: SDB06A Package Page; ComponentLink4URL: http://www.national.com/packaging/folders/sdb06a.html
footprint SDB06A (SON, 6-Leads, Body 2.2x2.5mm, Pitch 0.65mm, NSC Recommended (SC-70 Land))
pins: 1 TRIP TEST (in), 2 GND (power), 3 ~{OVERTEMP} (oc), 4 VDD (power), 5 OVERTEMP (out), 6 VTEMP (out), 7 DAP (power)

## SM72480SD-125/NOPB
designator U?
SolarMagic 1.6V Factory Preset Temperature Switch and Temperature Sensor, 6-pin LLP; PartNumber: SM72480SD-125/NOPB; Manufacturer: National Semiconductor; PackageTopMarking: XTT*299; PowerWise: N; CompType: Temp Sensor IC; High-Reliability: Y; DatasheetVersion: May-2011; PackageVersion: revA, Nov-2003; PackageReference: SDB06A; PackageDescription: LLP, Plastic, Dual, 2.2 x 2.5 x 0.8mm Body, 6 Lead, 0.65mm Pitch, No Pullback; RoHS: Y; PinCount: 6; ComponentLink1Description: Manufacturer URL; ComponentLink1URL: http://www.national.com/; ComponentLink2Description: SM72480 Datasheet; ComponentLink2URL: http://www.national.com/ds/SM/SM72480.pdf; ComponentLink3Description: SM72480 Web Page; ComponentLink3URL: http://www.national.com/pf/SM/SM72480.html; ComponentLink4Description: SDB06A Package Page; ComponentLink4URL: http://www.national.com/packaging/folders/sdb06a.html
footprint SDB06A (SON, 6-Leads, Body 2.2x2.5mm, Pitch 0.65mm, NSC Recommended (SC-70 Land))
pins: 1 TRIP TEST (in), 2 GND (power), 3 ~{OVERTEMP} (oc), 4 VDD (power), 5 OVERTEMP (out), 6 VTEMP (out), 7 DAP (power)

## SM72480SDE-105/NOPB
designator U?
SolarMagic 1.6V Factory Preset Temperature Switch and Temperature Sensor, 6-pin LLP; PartNumber: SM72480SDE-105/NOPB; Manufacturer: National Semiconductor; PackageTopMarking: XTT*701; PowerWise: N; CompType: Temp Sensor IC; High-Reliability: Y; DatasheetVersion: May-2011; PackageVersion: revA, Nov-2003; PackageReference: SDB06A; PackageDescription: LLP, Plastic, Dual, 2.2 x 2.5 x 0.8mm Body, 6 Lead, 0.65mm Pitch, No Pullback; RoHS: Y; PinCount: 6; ComponentLink1Description: Manufacturer URL; ComponentLink1URL: http://www.national.com/; ComponentLink2Description: SM72480 Datasheet; ComponentLink2URL: http://www.national.com/ds/SM/SM72480.pdf; ComponentLink3Description: SM72480 Web Page; ComponentLink3URL: http://www.national.com/pf/SM/SM72480.html; ComponentLink4Description: SDB06A Package Page; ComponentLink4URL: http://www.national.com/packaging/folders/sdb06a.html
footprint SDB06A (SON, 6-Leads, Body 2.2x2.5mm, Pitch 0.65mm, NSC Recommended (SC-70 Land))
pins: 1 TRIP TEST (in), 2 GND (power), 3 ~{OVERTEMP} (oc), 4 VDD (power), 5 OVERTEMP (out), 6 VTEMP (out), 7 DAP (power)

## SM72480SDE-120/NOPB
designator U?
SolarMagic 1.6V Factory Preset Temperature Switch and Temperature Sensor, 6-pin LLP, 250 Reel; PartNumber: SM72480SDE-120/NOPB; Manufacturer: National Semiconductor; PackageTopMarking: XTT*S80; PowerWise: N; CompType: Temp Sensor IC; High-Reliability: Y; DatasheetVersion: May-2011; PackageVersion: revA, Nov-2003; PackageReference: SDB06A; PackageDescription: LLP, Plastic, Dual, 2.2 x 2.5 x 0.8mm Body, 6 Lead, 0.65mm Pitch, No Pullback; RoHS: Y; PinCount: 6; ComponentLink1Description: Manufacturer URL; ComponentLink1URL: http://www.national.com/; ComponentLink2Description: SM72480 Datasheet; ComponentLink2URL: http://www.national.com/ds/SM/SM72480.pdf; ComponentLink3Description: SM72480 Web Page; ComponentLink3URL: http://www.national.com/pf/SM/SM72480.html; ComponentLink4Description: SDB06A Package Page; ComponentLink4URL: http://www.national.com/packaging/folders/sdb06a.html
footprint SDB06A (SON, 6-Leads, Body 2.2x2.5mm, Pitch 0.65mm, NSC Recommended (SC-70 Land))
pins: 1 TRIP TEST (in), 2 GND (power), 3 ~{OVERTEMP} (oc), 4 VDD (power), 5 OVERTEMP (out), 6 VTEMP (out), 7 DAP (power)

## SM72480SDE-125/NOPB
designator U?
SolarMagic 1.6V Factory Preset Temperature Switch and Temperature Sensor, 6-pin LLP; PartNumber: SM72480SDE-125/NOPB; Manufacturer: National Semiconductor; PackageTopMarking: XTT*299; PowerWise: N; CompType: Temp Sensor IC; High-Reliability: Y; DatasheetVersion: May-2011; PackageVersion: revA, Nov-2003; PackageReference: SDB06A; PackageDescription: LLP, Plastic, Dual, 2.2 x 2.5 x 0.8mm Body, 6 Lead, 0.65mm Pitch, No Pullback; RoHS: Y; PinCount: 6; ComponentLink1Description: Manufacturer URL; ComponentLink1URL: http://www.national.com/; ComponentLink2Description: SM72480 Datasheet; ComponentLink2URL: http://www.national.com/ds/SM/SM72480.pdf; ComponentLink3Description: SM72480 Web Page; ComponentLink3URL: http://www.national.com/pf/SM/SM72480.html; ComponentLink4Description: SDB06A Package Page; ComponentLink4URL: http://www.national.com/packaging/folders/sdb06a.html
footprint SDB06A (SON, 6-Leads, Body 2.2x2.5mm, Pitch 0.65mm, NSC Recommended (SC-70 Land))
pins: 1 TRIP TEST (in), 2 GND (power), 3 ~{OVERTEMP} (oc), 4 VDD (power), 5 OVERTEMP (out), 6 VTEMP (out), 7 DAP (power)

## SM72480SDX-105/NOPB
designator U?
SolarMagic 1.6V Factory Preset Temperature Switch and Temperature Sensor, 6-pin LLP; PartNumber: SM72480SDX-105/NOPB; Manufacturer: National Semiconductor; PackageTopMarking: XTT*701; PowerWise: N; CompType: Temp Sensor IC; High-Reliability: Y; DatasheetVersion: May-2011; PackageVersion: revA, Nov-2003; PackageReference: SDB06A; PackageDescription: LLP, Plastic, Dual, 2.2 x 2.5 x 0.8mm Body, 6 Lead, 0.65mm Pitch, No Pullback; RoHS: Y; PinCount: 6; ComponentLink1Description: Manufacturer URL; ComponentLink1URL: http://www.national.com/; ComponentLink2Description: SM72480 Datasheet; ComponentLink2URL: http://www.national.com/ds/SM/SM72480.pdf; ComponentLink3Description: SM72480 Web Page; ComponentLink3URL: http://www.national.com/pf/SM/SM72480.html; ComponentLink4Description: SDB06A Package Page; ComponentLink4URL: http://www.national.com/packaging/folders/sdb06a.html
footprint SDB06A (SON, 6-Leads, Body 2.2x2.5mm, Pitch 0.65mm, NSC Recommended (SC-70 Land))
pins: 1 TRIP TEST (in), 2 GND (power), 3 ~{OVERTEMP} (oc), 4 VDD (power), 5 OVERTEMP (out), 6 VTEMP (out), 7 DAP (power)

## SM72480SDX-120/NOPB
designator U?
SolarMagic 1.6V Factory Preset Temperature Switch and Temperature Sensor, 6-pin LLP, 4500 Reel; PartNumber: SM72480SDX-120/NOPB; Manufacturer: National Semiconductor; PackageTopMarking: XTT*S80; PowerWise: N; CompType: Temp Sensor IC; High-Reliability: Y; DatasheetVersion: May-2011; PackageVersion: revA, Nov-2003; PackageReference: SDB06A; PackageDescription: LLP, Plastic, Dual, 2.2 x 2.5 x 0.8mm Body, 6 Lead, 0.65mm Pitch, No Pullback; RoHS: Y; PinCount: 6; ComponentLink1Description: Manufacturer URL; ComponentLink1URL: http://www.national.com/; ComponentLink2Description: SM72480 Datasheet; ComponentLink2URL: http://www.national.com/ds/SM/SM72480.pdf; ComponentLink3Description: SM72480 Web Page; ComponentLink3URL: http://www.national.com/pf/SM/SM72480.html; ComponentLink4Description: SDB06A Package Page; ComponentLink4URL: http://www.national.com/packaging/folders/sdb06a.html
footprint SDB06A (SON, 6-Leads, Body 2.2x2.5mm, Pitch 0.65mm, NSC Recommended (SC-70 Land))
pins: 1 TRIP TEST (in), 2 GND (power), 3 ~{OVERTEMP} (oc), 4 VDD (power), 5 OVERTEMP (out), 6 VTEMP (out), 7 DAP (power)

## SM72480SDX-125/NOPB
designator U?
SolarMagic 1.6V Factory Preset Temperature Switch and Temperature Sensor, 6-pin LLP; PartNumber: SM72480SDX-125/NOPB; Manufacturer: National Semiconductor; PackageTopMarking: XTT*299; PowerWise: N; CompType: Temp Sensor IC; High-Reliability: Y; DatasheetVersion: May-2011; PackageVersion: revA, Nov-2003; PackageReference: SDB06A; PackageDescription: LLP, Plastic, Dual, 2.2 x 2.5 x 0.8mm Body, 6 Lead, 0.65mm Pitch, No Pullback; RoHS: Y; PinCount: 6; ComponentLink1Description: Manufacturer URL; ComponentLink1URL: http://www.national.com/; ComponentLink2Description: SM72480 Datasheet; ComponentLink2URL: http://www.national.com/ds/SM/SM72480.pdf; ComponentLink3Description: SM72480 Web Page; ComponentLink3URL: http://www.national.com/pf/SM/SM72480.html; ComponentLink4Description: SDB06A Package Page; ComponentLink4URL: http://www.national.com/packaging/folders/sdb06a.html
footprint SDB06A (SON, 6-Leads, Body 2.2x2.5mm, Pitch 0.65mm, NSC Recommended (SC-70 Land))
pins: 1 TRIP TEST (in), 2 GND (power), 3 ~{OVERTEMP} (oc), 4 VDD (power), 5 OVERTEMP (out), 6 VTEMP (out), 7 DAP (power)

## SM72480X/NOPB
designator U?
SolarMagic 1.6V Factory Preset Temperature Switch and Temperature Sensor, 6-pin LLP, 4500 Reel; PartNumber: SM72480X/NOPB; Manufacturer: National Semiconductor; PackageTopMarking: XTT*S80; PowerWise: N; CompType: Temp Sensor IC; High-Reliability: Y; DatasheetVersion: May-2011; PackageVersion: revA, Nov-2003; PackageReference: SDB06A; PackageDescription: LLP, Plastic, Dual, 2.2 x 2.5 x 0.8mm Body, 6 Lead, 0.65mm Pitch, No Pullback; RoHS: Y; PinCount: 6; ComponentLink1Description: Manufacturer URL; ComponentLink1URL: http://www.national.com/; ComponentLink2Description: SM72480 Datasheet; ComponentLink2URL: http://www.national.com/ds/SM/SM72480.pdf; ComponentLink3Description: SM72480 Web Page; ComponentLink3URL: http://www.national.com/pf/SM/SM72480.html; ComponentLink4Description: SDB06A Package Page; ComponentLink4URL: http://www.national.com/packaging/folders/sdb06a.html
footprint SDB06A (SON, 6-Leads, Body 2.2x2.5mm, Pitch 0.65mm, NSC Recommended (SC-70 Land))
pins: 1 TRIP TEST (in), 2 GND (power), 3 ~{OVERTEMP} (oc), 4 VDD (power), 5 OVERTEMP (out), 6 VTEMP (out), 7 DAP (power)